# EAGLE library part L20P (library con-amp-mt)
AMP MT CONNECTOR
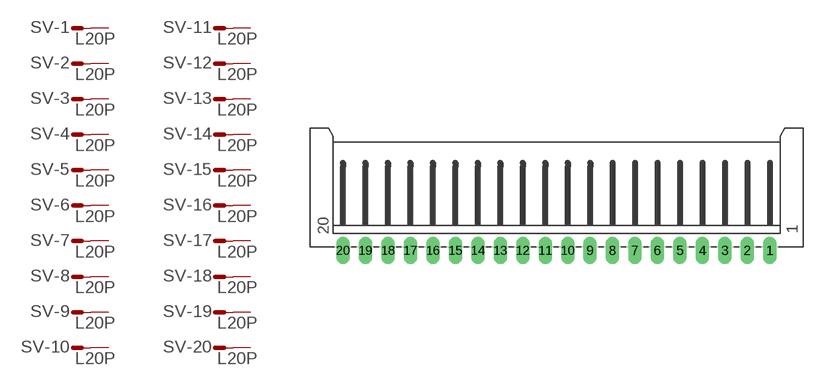
[diagram p24: symbol with the pads of L20P; footprint L20P]

Designator prefix SV; gates -1=M -2=M -3=M -4=M -5=M -6=M -7=M -8=M -9=M -10=M -11=M -12=M -13=M -14=M -15=M -16=M -17=M -18=M -19=M -20=M

## L20P (OC_FARNELL: unknown; OC_NEWARK: unknown)  [L20P]
1  -1:S  pas
2  -2:S  pas
3  -3:S  pas
4  -4:S  pas
5  -5:S  pas
6  -6:S  pas
7  -7:S  pas
8  -8:S  pas
9  -9:S  pas
10  -10:S  pas
11  -11:S  pas
12  -12:S  pas
13  -13:S  pas
14  -14:S  pas
15  -15:S  pas
16  -16:S  pas
17  -17:S  pas
18  -18:S  pas
19  -19:S  pas
20  -20:S  pas

## Footprint L20P (pad centres in mm)
AMP MT CONNECTOR
drill 1.016 long: 1 23.75,-6.25; 2 21.25,-6.25; 3 18.75,-6.25; 4 16.25,-6.25; 5 13.75,-6.25; 6 11.25,-6.25; 7 8.75,-6.25; 8 6.25,-6.25; 9 3.75,-6.25; 10 1.25,-6.25; 11 -1.25,-6.25; 12 -3.75,-6.25; 13 -6.25,-6.25; 14 -8.75,-6.25; 15 -11.25,-6.25; 16 -13.74,-6.25; 17 -16.255,-6.25; 18 -18.744,-6.25; 19 -21.259,-6.25; 20 -23.748,-6.25